# Altium footprint library Kit_Rele_v1_PCBLib.PcbLib: 6 footprints
Each footprint in its own frame and in the unit in brackets; x right, y up, seen from the top. Pads: shape width x height; smd on the part's side, far side on the other; paste and mask are expansions set on the pad; w line width, h text height; cw(c..) or ccw(c..) is an arc to the next point about the centre after c.
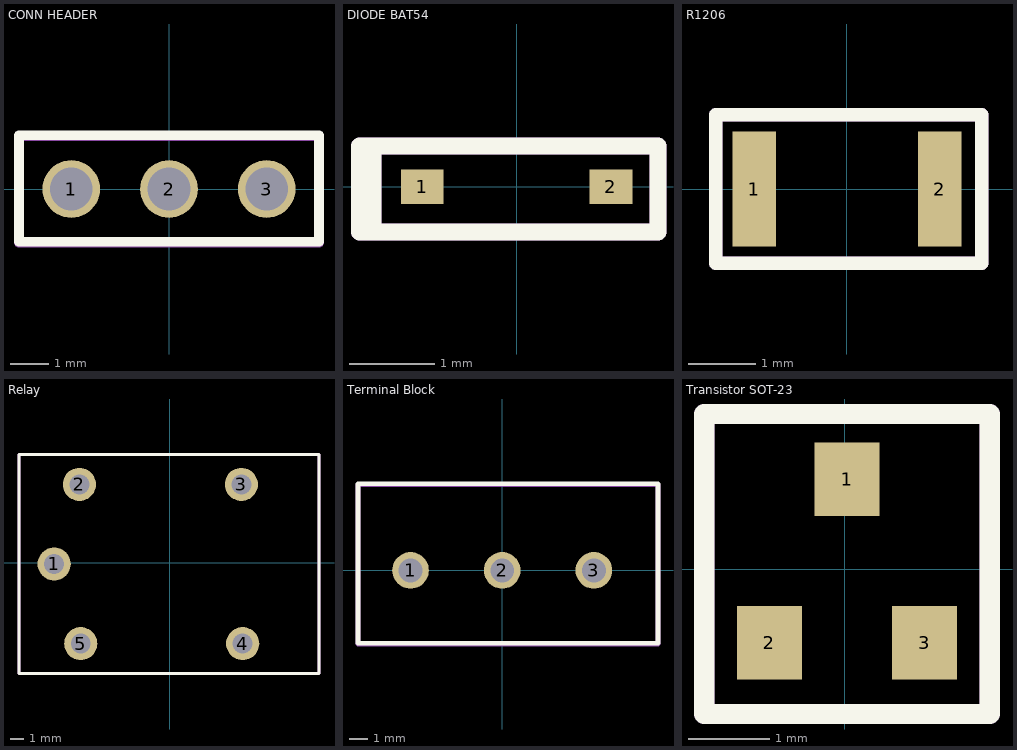
[diagram p0: the footprints below, top view; thin cyan lines are the x and y axes]

## CONN HEADER [mm]
pads (3):
  round 1.5 hole 1.11: 1(-2.541,0) 2(0,0) 3(2.541,0)
Top Overlay:
  lines w0.25: -3.9,-1.375 3.9,-1.375 3.9,1.4 -3.9,1.4 -3.9,-1.375
Mechanical 29:
  lines w0.25: -3.9,-1.4 -3.9,1.375 3.9,1.375 3.9,-1.4 -3.9,-1.4
  text "'.Designator'" at -3.1,-0.3 h0.7
3D body "User Library-1x3 TH Pitch 2_54mm.STEP": height 9.5, standoff -3.2, extent -3.811,-1.27 3.809,1.27

## DIODE BAT54 [mm]
pads (2):
  rect 0.5x0.4 smd: 1(-1.1,0) 2(1.1,0)
Top Overlay:
  rectangle: -1.85,-0.525 -1.575,0.475
  lines w0.2: -1.829,-0.525 1.65,-0.525 1.65,0.475 -1.829,0.475 -1.829,-0.525
Mechanical 29:
  rectangle: -1.85,-0.525 -1.575,0.475
  lines w0.2: -1.829,-0.525 -1.829,0.475 1.65,0.475 1.65,-0.525 -1.829,-0.525
  text "'.Designator'" at -1.803,-0.356 h0.7
3D body: height 1.1, standoff 0, extent -0.838,-0.432 0.838,0.381
3D body: height 1.27, standoff 0, extent -0.711,-0.406 -0.711,-0.406
3D body: height 0.1, standoff 0, extent -1.219,-0.178 -0.838,0.178
3D body: height 0.1, standoff 0, extent 0.838,-0.178 1.219,0.178

## R1206 [mm]
pads (2):
  rect 0.65x1.7 smd: 1(-1.375,0) 2(1.375,0)
Top Overlay:
  lines w0.2: -1.95,-1.1 -1.95,0 -1.95,1.1 2,1.1 2,-1.1 -1.95,-1.1
Mechanical 29:
  lines w0.2: -1.95,-1.1 2,-1.1 2,1.1 -1.95,1.1 -1.95,0 -1.95,-1.1
  text "'.Designator'" at -1.95,-0.2 h0.7
3D body "User Library-CR3216-1206.step": height 0.61, standoff 0.01, extent -1.6,-0.8 1.6,0.8

## Relay [mm]
pads (5):
  round 2.5 hole 1.5: 1(-8.7,-0.1) 2(-6.8,5.9) 3(5.4,5.9) 4(5.5,-6.1) 5(-6.7,-6.1)
Top Overlay:
  lines w0.25: -11.35,-8.35 -11.35,8.15 11.15,8.15 ; -11.25,-8.35 11.25,-8.35 11.25,8.15
Mechanical 29:
  lines w0.25: -11.35,-8.35 -11.35,8.15 11.15,8.15 ; -11.25,-8.35 11.25,-8.35 11.25,8.15
  text "'.Designator'" at -4,0 h0.7
3D body: height 1.28, standoff -0.32, extent 4.885,-6.719 6.12,-5.481
3D body: height 1.28, standoff -0.32, extent -7.315,-6.719 -6.08,-5.481
3D body: height 1.28, standoff -0.32, extent -9.315,-0.719 -8.08,0.519
3D body: height 1.28, standoff -0.72, extent -7.415,5.281 -6.18,6.519
3D body: height 1.28, standoff -0.32, extent 4.785,5.281 6.02,6.519
3D body: height 0.25, standoff 0, extent -14.55,5.35 -14.55,5.35
3D body: height 19, standoff 0, extent -11.225,-8.225 11.125,8.025
3D body: height 0.25, standoff 0, extent -19,7.7 -19,7.7
3D body: height 0.8, standoff -0.8, extent -19,8 -19,8
3D body: height 0.8, standoff -0.8, extent -19,8 -19,8
3D body: height 0.8, standoff -0.8, extent -7.5,0.8 -7.5,0.8
3D body: height 0.8, standoff -0.8, extent 15.7,-2.1 15.7,-2.1

## Terminal Block [mm]
pads (3):
  round 2 hole 1.3: 1(-5,0) 2(0,0) 3(5,0)
Top Overlay:
  lines w0.25: -7.867,-3.975 8.5,-3.975 8.5,4.725 -7.867,4.725 -7.867,-3.975
Mechanical 29:
  lines w0.25: -7.867,-4.025 -7.867,4.675 8.5,4.675 8.5,-4.025 -7.867,-4.025
  text "'.Designator'" at -3.275,2.9 h0.7
3D body "Terminal Block V2.stp": height 10.01, standoff -2.59, extent -7.605,-3.75 8.235,4.45

## Transistor SOT-23 [mm]
pads (3):
  rect 0.8x0.9 smd: 1(0.025,1.1) 2(-0.925,-0.9) 3(0.975,-0.9)
Top Overlay:
  lines w0.25: -1.725,-1.775 -1.725,1.9 1.775,1.9 1.775,-1.775 -1.725,-1.775
Mechanical 29:
  lines w0.25: -1.725,-1.775 1.775,-1.775 1.775,1.9 -1.725,1.9 -1.725,-1.775
  text "'.Designator'" at -1.35,-0.15 h0.7
3D body "CircuitWorks-SOT-23.STEP": height 1.11, standoff 0.01, extent -1.45,-1.1 1.55,1.4